# EAGLE library part WT32I-VISUAL (library jetney-silabs-modules)
Bluegiga WT32 class 2 Bluetooth Audio module - Bluetooth 2.1 + EDR w/stereo analog audio (A2DP) support. WT32-A variant has an on-module ceramic chip antenna, WT32-E variant has W.Fl connector. WT32-A variant includes keepout/restrict area. Antenna edge of the module should be flush up against the edge of the PCB. See datasheet for variant layout details. The WT32 is a Bluetooth 2.1 + EDR module dedicated for Bluetooth audio applications. In addition to Bluetooth radio, antenna and iWRAP Bluetooth stack, the WT32 contains a DSP processor, a stereo audio codec and a battery charger making it ideal for portable battery Bluetooth stereo or hands-free audio applications. The WT32 constitutes an ideal solution for developers that want to quickly integrate the latest Bluetooth audio technologies into their design without investing several months into Bluetooth radio and stack development. In addition to the standard Bluetooth audio profiles, the WT32 can also support aptX® audio coding technology, offering outstanding Bluetooth Stereo audio quality, CVC audio enhancement software for hands-free applications and Apple iAP profile enabling OEMs, to create really unique and differentiated audio products. http://www.bluegiga.com/en-US/products/bluetooth-classic-modules/wt32-bluetooth--audio-module https://github.com/jrowberg/sf-oshw Last updated 2014-01-04 by Jeff Rowberg <jeff@rowberg.net>
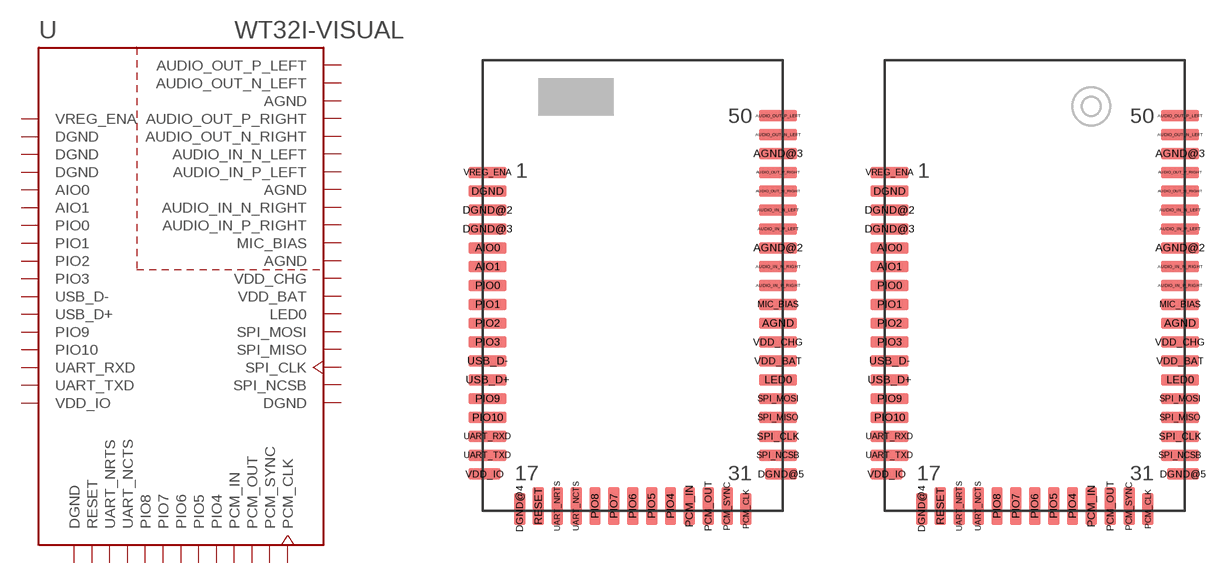
[diagram p9: symbol with the pads of WT32I-A; footprints WT32I-A, WT32I-E]

Designator prefix U

## WT32I-VISUAL-A (ANTENNA: On-module ceramic chip antenna)  [WT32I-A]
AGND  AGND  pwr
AGND@2  AGND  pwr
AGND@3  AGND  pwr
AIO0  AIO0
AIO1  AIO1
AUDIO_IN_N_LEFT  AUDIO_IN_N_LEFT  in
AUDIO_IN_N_RIGHT  AUDIO_IN_N_RIGHT  in
AUDIO_IN_P_LEFT  AUDIO_IN_P_LEFT  in
AUDIO_IN_P_RIGHT  AUDIO_IN_P_RIGHT  in
AUDIO_OUT_N_LEFT  AUDIO_OUT_N_LEFT  out
AUDIO_OUT_N_RIGHT  AUDIO_OUT_N_RIGHT  out
AUDIO_OUT_P_LEFT  AUDIO_OUT_P_LEFT  out
AUDIO_OUT_P_RIGHT  AUDIO_OUT_P_RIGHT  out
DGND  DGND  pwr
DGND@2  DGND  pwr
DGND@3  DGND  pwr
DGND@4  DGND  pwr
DGND@5  DGND  pwr
LED0  LED0  out
MIC_BIAS  MIC_BIAS  out
PCM_CLK  PCM_CLK
PCM_IN  PCM_IN  in
PCM_OUT  PCM_OUT  out
PCM_SYNC  PCM_SYNC
PIO0  PIO0
PIO1  PIO1
PIO2  PIO2
PIO3  PIO3
PIO4  PIO4
PIO5  PIO5
PIO6  PIO6
PIO7  PIO7
PIO8  PIO8
PIO9  PIO9
PIO10  PIO10
RESET  RESET  in
SPI_CLK  SPI_CLK  in
SPI_MISO  SPI_MISO  out
SPI_MOSI  SPI_MOSI  in
SPI_NCSB  SPI_NCSB  in
UART_NCTS  UART_NCTS  in
UART_NRTS  UART_NRTS  out
UART_RXD  UART_RXD  in
UART_TXD  UART_TXD  out
USB_D+  USB_D+
USB_D-  USB_D-
VDD_BAT  VDD_BAT  pwr
VDD_CHG  VDD_CHG  pwr
VDD_IO  VDD_IO  pwr
VREG_ENA  VREG_ENA  in

## WT32I-VISUAL-E (ANTENNA: W.Fl connector)  [WT32I-E]
Pads as for WT32I-A

## Footprint WT32I-A (pad centres in mm)
Bluegiga WT32 class 2 Bluetooth Audio module - Bluetooth 2.1 + EDR w/stereo analog audio (A2DP) support. WT32-A variant has an on-module ceramic chip antenna. WT32-A variant includes keepout/restrict area. Antenna edge of the module should be flush up against the edge of the PCB. See datasheet for variant layout details. The WT32 is a Bluetooth 2.1 + EDR module dedicated for Bluetooth audio applications. In addition to Bluetooth radio, antenna and iWRAP Bluetooth stack, the WT32 contains a DSP processor, a stereo audio codec and a battery charger making it ideal for portable battery Bluetooth stereo or hands-free audio applications. The WT32 constitutes an ideal solution for developers that want to quickly integrate the latest Bluetooth audio technologies into their design without investing several months into Bluetooth radio and stack development. In addition to the standard Bluetooth audio profiles, the WT32 can also support aptX® audio coding technology, offering outstanding Bluetooth Stereo audio quality, CVC audio enhancement software for hands-free applications and Apple iAP profile enabling OEMs, to create really unique and differentiated audio products. http://www.bluegiga.com/en-US/products/bluetooth-classic-modules/wt32-bluetooth--audio-module https://github.com/jrowberg/sf-oshw Last updated 2014-01-04 by Jeff Rowberg <jeff@rowberg.net>
smd 2 x 0.6: AGND 7.7,-2; AGND@2 7.7,2; AGND@3 7.7,7; AIO0 -7.7,2; AIO1 -7.7,1; AUDIO_IN_N_LEFT 7.7,4; AUDIO_IN_N_RIGHT 7.7,1; AUDIO_IN_P_LEFT 7.7,3; AUDIO_IN_P_RIGHT 7.7,0; AUDIO_OUT_N_LEFT 7.7,8; AUDIO_OUT_N_RIGHT 7.7,5; AUDIO_OUT_P_LEFT 7.7,9; AUDIO_OUT_P_RIGHT 7.7,6; DGND -7.7,5; DGND@2 -7.7,4; DGND@3 -7.7,3; LED0 7.7,-5; MIC_BIAS 7.7,-1; PIO0 -7.7,0; PIO1 -7.7,-1; PIO2 -7.7,-2; PIO3 -7.7,-3; PIO9 -7.7,-6; PIO10 -7.7,-7; SPI_CLK 7.7,-8; SPI_MISO 7.7,-7; SPI_MOSI 7.7,-6; SPI_NCSB 7.7,-9; UART_RXD -7.7,-8; UART_TXD -7.7,-9; USB_D+ -7.7,-5; USB_D- -7.7,-4; VDD_BAT 7.7,-4; VDD_CHG 7.7,-3; VREG_ENA -7.7,6
smd 0.6 x 1.7: DGND@4 -6,-11.85; PCM_CLK 6,-11.85
smd 1.7 x 0.6: DGND@5 7.85,-10; VDD_IO -7.85,-10
smd 0.6 x 2: PCM_IN 3,-11.7; PCM_OUT 4,-11.7; PCM_SYNC 5,-11.7; PIO4 2,-11.7; PIO5 1,-11.7; PIO6 0,-11.7; PIO7 -1,-11.7; PIO8 -2,-11.7; RESET -5,-11.7; UART_NCTS -3,-11.7; UART_NRTS -4,-11.7

## Footprint WT32I-E (pad centres in mm)
Bluegiga WT32 class 2 Bluetooth Audio module - Bluetooth 2.1 + EDR w/stereo analog audio (A2DP) support. WT32-E variant has a W.Fl connector for RF output. See datasheet for variant layout details. The WT32 is a Bluetooth 2.1 + EDR module dedicated for Bluetooth audio applications. In addition to Bluetooth radio, antenna and iWRAP Bluetooth stack, the WT32 contains a DSP processor, a stereo audio codec and a battery charger making it ideal for portable battery Bluetooth stereo or hands-free audio applications. The WT32 constitutes an ideal solution for developers that want to quickly integrate the latest Bluetooth audio technologies into their design without investing several months into Bluetooth radio and stack development. In addition to the standard Bluetooth audio profiles, the WT32 can also support aptX® audio coding technology, offering outstanding Bluetooth Stereo audio quality, CVC audio enhancement software for hands-free applications and Apple iAP profile enabling OEMs, to create really unique and differentiated audio products. http://www.bluegiga.com/en-US/products/bluetooth-classic-modules/wt32-bluetooth--audio-module https://github.com/jrowberg/sf-oshw Last updated 2014-01-04 by Jeff Rowberg <jeff@rowberg.net>
smd 2 x 0.6: AGND 7.7,-2; AGND@2 7.7,2; AGND@3 7.7,7; AIO0 -7.7,2; AIO1 -7.7,1; AUDIO_IN_N_LEFT 7.7,4; AUDIO_IN_N_RIGHT 7.7,1; AUDIO_IN_P_LEFT 7.7,3; AUDIO_IN_P_RIGHT 7.7,0; AUDIO_OUT_N_LEFT 7.7,8; AUDIO_OUT_N_RIGHT 7.7,5; AUDIO_OUT_P_LEFT 7.7,9; AUDIO_OUT_P_RIGHT 7.7,6; DGND -7.7,5; DGND@2 -7.7,4; DGND@3 -7.7,3; LED0 7.7,-5; MIC_BIAS 7.7,-1; PIO0 -7.7,0; PIO1 -7.7,-1; PIO2 -7.7,-2; PIO3 -7.7,-3; PIO9 -7.7,-6; PIO10 -7.7,-7; SPI_CLK 7.7,-8; SPI_MISO 7.7,-7; SPI_MOSI 7.7,-6; SPI_NCSB 7.7,-9; UART_RXD -7.7,-8; UART_TXD -7.7,-9; USB_D+ -7.7,-5; USB_D- -7.7,-4; VDD_BAT 7.7,-4; VDD_CHG 7.7,-3; VREG_ENA -7.7,6
smd 0.6 x 1.7: DGND@4 -6,-11.85; PCM_CLK 6,-11.85
smd 1.7 x 0.6: DGND@5 7.85,-10; VDD_IO -7.85,-10
smd 0.6 x 2: PCM_IN 3,-11.7; PCM_OUT 4,-11.7; PCM_SYNC 5,-11.7; PIO4 2,-11.7; PIO5 1,-11.7; PIO6 0,-11.7; PIO7 -1,-11.7; PIO8 -2,-11.7; RESET -5,-11.7; UART_NCTS -3,-11.7; UART_NRTS -4,-11.7